# EAGLE library part OLED_UG-9616GLBBG02 (library microbuilder)
96x16 0.84" I2C Mono OLED Display
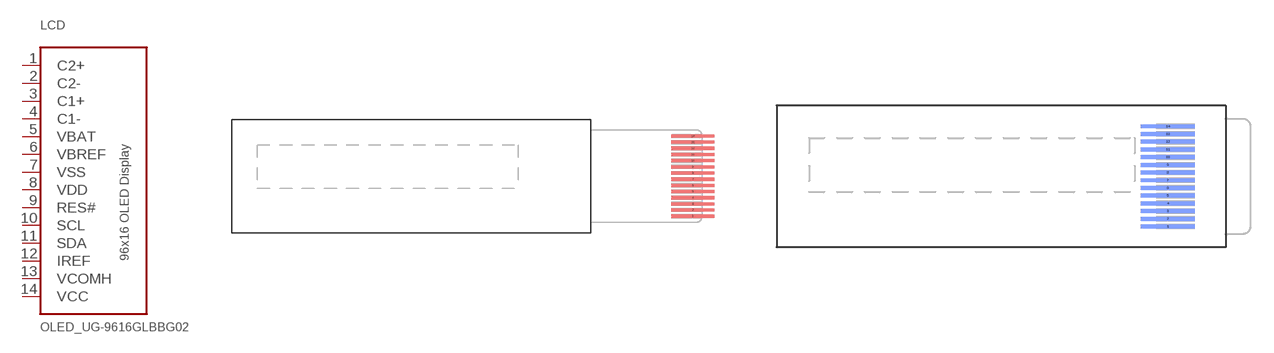
[diagram p103: symbol with the pads of UG-9616GLBBG02; footprints UG-9616GLBBG02, UG-9616GLBBG02_WRAPAROUND]

Designator prefix LCD

## OLED_UG-9616GLBBG020.5MMFLAT  [UG-9616GLBBG02]
1  C2+
2  C2-
3  C1+
4  C1-
5  VBAT
6  VBREF
7  VSS
8  VDD
9  RES#
10  SCL
11  SDA
12  IREF
13  VCOMH
14  VCC

## OLED_UG-9616GLBBG020.5MMWRAPUNDER  [UG-9616GLBBG02_WRAPAROUND]
Pads as for UG-9616GLBBG02

## OLED_UG-9616GLBBG02  [UG-9616GLBBG02_0.65MM_WRAPAROUND]
Pads as for UG-9616GLBBG02

## Footprint UG-9616GLBBG02 (pad centres in mm)
96x16 OLED Display - 0.84"/29.1x9.2mm
smd 3.5 x 0.254: 1 8.25,-3.25; 2 8.25,-2.75; 3 8.25,-2.25; 4 8.25,-1.75; 5 8.25,-1.25; 6 8.25,-0.75; 7 8.25,-0.25; 8 8.25,0.25; 9 8.25,0.75; 10 8.25,1.25; 11 8.25,1.75; 12 8.25,2.25; 13 8.25,2.75; 14 8.25,3.25

## Footprint UG-9616GLBBG02_WRAPAROUND (pad centres in mm)
smd 3.5 x 0.254 bottom: 1 -3.75,-3.25; 2 -3.75,-2.75; 3 -3.75,-2.25; 4 -3.75,-1.75; 5 -3.75,-1.25; 6 -3.75,-0.75; 7 -3.75,-0.25; 8 -3.75,0.25; 9 -3.75,0.75; 10 -3.75,1.25; 11 -3.75,1.75; 12 -3.75,2.25; 13 -3.75,2.75; 14 -3.75,3.25

## Footprint UG-9616GLBBG02_0.65MM_WRAPAROUND (pad centres in mm)
smd 3.5 x 0.3 bottom: 1 -5.75,-4.225; 2 -5.75,-3.575; 3 -5.75,-2.925; 4 -5.75,-2.275; 5 -5.75,-1.625; 6 -5.75,-0.975; 7 -5.75,-0.325; 8 -5.75,0.325; 9 -5.75,0.975; 10 -5.75,1.625; 11 -5.75,2.275; 12 -5.75,3.575; 13 -5.75,2.925; 14 -5.75,4.225